# Altium footprint library DDC-57471.PcbLib: 1 footprints
Each footprint in its own frame and in the unit in brackets; x right, y up, seen from the top. Pads: shape width x height; smd on the part's side, far side on the other; paste and mask are expansions set on the pad; w line width, h text height; cw(c..) or ccw(c..) is an arc to the next point about the centre after c.
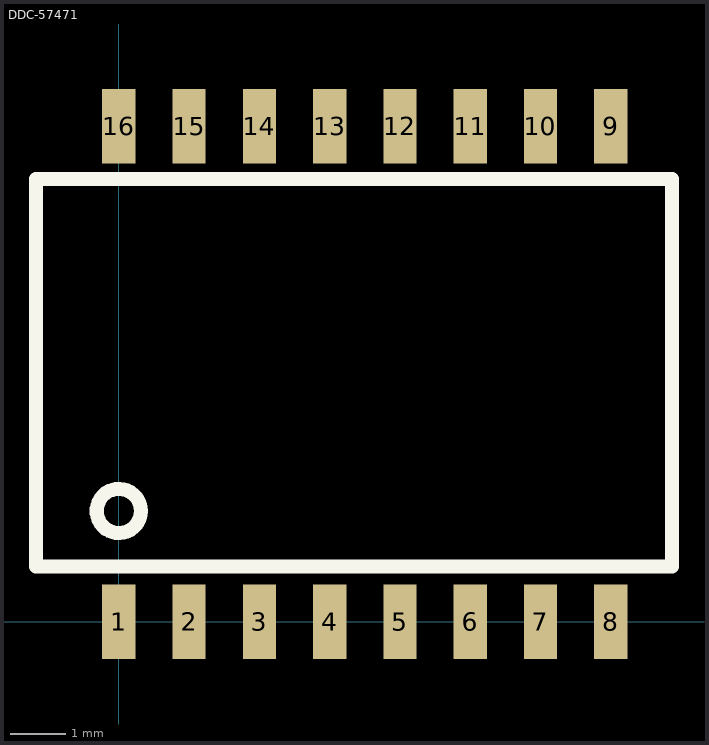
[diagram p0: the footprint, top view; thin cyan lines are the x and y axes]

## DDC-57471 [mm]
pads (16):
  rect 0.6x1.35 smd: 1(0,0) 2(1.27,0) 3(2.54,0) 4(3.81,0) 5(5.08,0) 6(6.35,0) 7(7.62,0) 8(8.89,0) 9(8.89,8.95) 10(7.62,8.95) 11(6.35,8.95) 12(5.08,8.95) 13(3.81,8.95) 14(2.54,8.95) 15(1.27,8.95) 16(0,8.95)
Top Overlay:
  circle w0.254: c0,2 r0.4
  lines w0.254: -1.5,1 -1.5,8 10,8 10,1 -1.5,1